# Altium footprint library PcbLib1.PcbLib: 4 footprints
Each footprint in its own frame and in the unit in brackets; x right, y up, seen from the top. Pads: shape width x height; smd on the part's side, far side on the other; paste and mask are expansions set on the pad; w line width, h text height; cw(c..) or ccw(c..) is an arc to the next point about the centre after c.
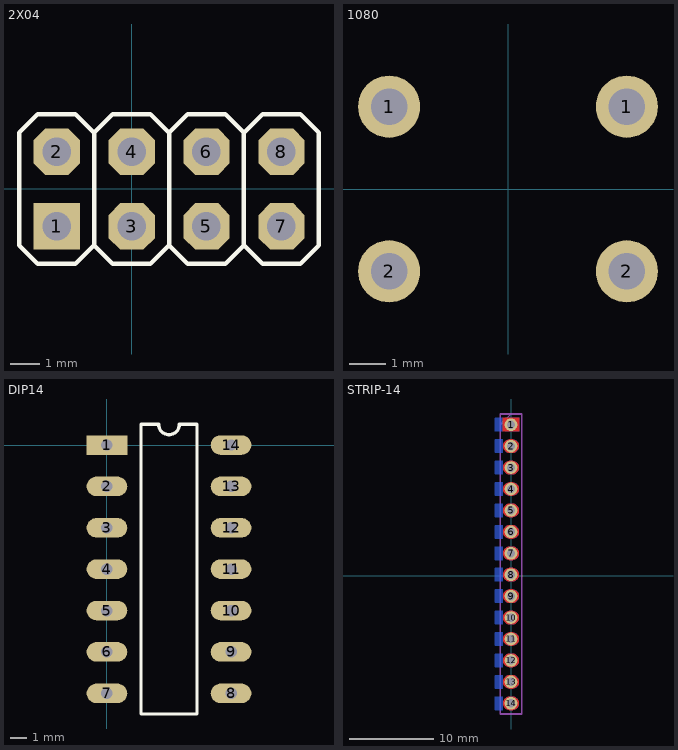
[diagram p0: the footprints below, top view; thin cyan lines are the x and y axes]

## 2X04 [mil]
height 338.58
pads (8):
  rect 62x62 hole 38: 1(-100,-50)
  oct 62x62 hole 38: 2(-100,50) 3(0,-50) 4(0,50) 5(100,-50) 6(100,50) 7(200,-50) 8(200,50)
Top Overlay:
  lines w6: -50,-75 -75,-100 -125,-100 -150,-75 -150,75 -125,100 -75,100 -50,75 ; -50,-75 -25,-100 25,-100 50,-75 ; -50,-75 -50,75 ; -50,75 -25,100 25,100 50,75 ; 50,-75 50,75 ; 50,-75 75,-100 125,-100 150,-75 ; 50,75 75,100 125,100 150,75 ; 150,-75 150,75 ; 150,-75 175,-100 225,-100 250,-75 250,75 225,100 175,100 150,75 ; 150,-75 150,75
Mechanical 16:
  rectangle: -110,-60 -90,-40
  rectangle: -110,40 -90,60
  rectangle: -10,40 10,60
  rectangle: -10,-60 10,-40
  rectangle: 90,40 110,60
  rectangle: 90,-60 110,-40
  rectangle: 190,-60 210,-40
  rectangle: 190,40 210,60

## 1080 [mm]
pads (4):
  round 1.7 hole 1: 1(-3.25,2.25) 1(3.25,2.25) 2(-3.25,-2.25) 2(3.25,-2.25)

## DIP14 [mm]
pads (14):
  rect 2.5x1.2 hole 0.7: 1(0,0)
  oval 2.5x1.2 hole 0.7: 2(0,-2.54) 3(0,-5.08) 4(0,-7.62) 5(0,-10.16) 6(0,-12.7) 7(0,-15.24) 8(7.62,-15.24) 9(7.62,-12.7) 10(7.62,-10.16) 11(7.62,-7.62) 12(7.62,-5.08) 13(7.62,-2.54) 14(7.62,0)
Top Overlay:
  lines w0.2: 2.085,-16.51 2.085,1.27 3.175,1.27 ccw(c3.81,1.27) 4.445,1.27 5.535,1.27 5.535,-16.51 2.085,-16.51

## STRIP-14 [mm]
pads (14):
  round 1.5 hole 1: 1(0,17.907) 2(0,15.367) 3(0,12.827) 4(0,10.287) 5(0,7.747) 6(0,5.207) 7(0,2.667) 8(0,0.127) 9(0,-2.413) 10(0,-4.953) 11(0,-7.493) 12(0,-10.033) 13(0,-12.573) 14(0,-15.113)
Top Layer:
  region: 0.953,18.707 0.953,17.107 -0.953,17.107 -0.953,18.707
  region: 0.14,16.167 0.219,16.167 0.373,16.136 0.519,16.076 0.65,15.988 0.761,15.877 0.849,15.746 0.909,15.6 0.94,15.446 0.94,15.367 0.94,15.288 0.909,15.134 0.849,14.988 0.761,14.857 0.65,14.746 0.519,14.658 0.373,14.598 0.219,14.567 0.14,14.567 -0.14,14.567 -0.219,14.567 -0.373,14.598 -0.519,14.658 -0.65,14.746 -0.761,14.857 -0.849,14.988 -0.909,15.134 -0.94,15.288 -0.94,15.367 -0.94,15.446 -0.909,15.6 -0.849,15.746 -0.761,15.877 -0.65,15.988 -0.519,16.076 -0.373,16.136 -0.219,16.167 -0.14,16.167
  region: 0.14,13.627 0.219,13.627 0.373,13.596 0.519,13.536 0.65,13.448 0.761,13.337 0.849,13.206 0.909,13.06 0.94,12.906 0.94,12.827 0.94,12.748 0.909,12.594 0.849,12.448 0.761,12.317 0.65,12.206 0.519,12.118 0.373,12.058 0.219,12.027 0.14,12.027 -0.14,12.027 -0.219,12.027 -0.373,12.058 -0.519,12.118 -0.65,12.206 -0.761,12.317 -0.849,12.448 -0.909,12.594 -0.94,12.748 -0.94,12.827 -0.94,12.906 -0.909,13.06 -0.849,13.206 -0.761,13.337 -0.65,13.448 -0.519,13.536 -0.373,13.596 -0.219,13.627 -0.14,13.627
  region: 0.14,11.087 0.219,11.087 0.373,11.056 0.519,10.996 0.65,10.908 0.761,10.797 0.849,10.666 0.909,10.52 0.94,10.366 0.94,10.287 0.94,10.208 0.909,10.054 0.849,9.908 0.761,9.777 0.65,9.666 0.519,9.578 0.373,9.518 0.219,9.487 0.14,9.487 -0.14,9.487 -0.219,9.487 -0.373,9.518 -0.519,9.578 -0.65,9.666 -0.761,9.777 -0.849,9.908 -0.909,10.054 -0.94,10.208 -0.94,10.287 -0.94,10.366 -0.909,10.52 -0.849,10.666 -0.761,10.797 -0.65,10.908 -0.519,10.996 -0.373,11.056 -0.219,11.087 -0.14,11.087
  region: 0.14,8.547 0.219,8.547 0.373,8.516 0.519,8.456 0.65,8.368 0.761,8.257 0.849,8.126 0.909,7.98 0.94,7.826 0.94,7.747 0.94,7.668 0.909,7.514 0.849,7.368 0.761,7.237 0.65,7.126 0.519,7.038 0.373,6.978 0.219,6.947 0.14,6.947 -0.14,6.947 -0.219,6.947 -0.373,6.978 -0.519,7.038 -0.65,7.126 -0.761,7.237 -0.849,7.368 -0.909,7.514 -0.94,7.668 -0.94,7.747 -0.94,7.826 -0.909,7.98 -0.849,8.126 -0.761,8.257 -0.65,8.368 -0.519,8.456 -0.373,8.516 -0.219,8.547 -0.14,8.547
  region: 0.14,6.007 0.219,6.007 0.373,5.976 0.519,5.916 0.65,5.828 0.761,5.717 0.849,5.586 0.909,5.44 0.94,5.286 0.94,5.207 0.94,5.128 0.909,4.974 0.849,4.828 0.761,4.697 0.65,4.586 0.519,4.498 0.373,4.438 0.219,4.407 0.14,4.407 -0.14,4.407 -0.219,4.407 -0.373,4.438 -0.519,4.498 -0.65,4.586 -0.761,4.697 -0.849,4.828 -0.909,4.974 -0.94,5.128 -0.94,5.207 -0.94,5.286 -0.909,5.44 -0.849,5.586 -0.761,5.717 -0.65,5.828 -0.519,5.916 -0.373,5.976 -0.219,6.007 -0.14,6.007
  region: 0.14,3.467 0.219,3.467 0.373,3.436 0.519,3.376 0.65,3.288 0.761,3.177 0.849,3.046 0.909,2.9 0.94,2.746 0.94,2.667 0.94,2.588 0.909,2.434 0.849,2.288 0.761,2.157 0.65,2.046 0.519,1.958 0.373,1.898 0.219,1.867 0.14,1.867 -0.14,1.867 -0.219,1.867 -0.373,1.898 -0.519,1.958 -0.65,2.046 -0.761,2.157 -0.849,2.288 -0.909,2.434 -0.94,2.588 -0.94,2.667 -0.94,2.746 -0.909,2.9 -0.849,3.046 -0.761,3.177 -0.65,3.288 -0.519,3.376 -0.373,3.436 -0.219,3.467 -0.14,3.467
  region: 0.14,0.927 0.219,0.927 0.373,0.896 0.519,0.836 0.65,0.748 0.761,0.637 0.849,0.506 0.909,0.36 0.94,0.206 0.94,0.127 0.94,0.048 0.909,-0.106 0.849,-0.252 0.761,-0.383 0.65,-0.494 0.519,-0.582 0.373,-0.642 0.219,-0.673 0.14,-0.673 -0.14,-0.673 -0.219,-0.673 -0.373,-0.642 -0.519,-0.582 -0.65,-0.494 -0.761,-0.383 -0.849,-0.252 -0.909,-0.106 -0.94,0.048 -0.94,0.127 -0.94,0.206 -0.909,0.36 -0.849,0.506 -0.761,0.637 -0.65,0.748 -0.519,0.836 -0.373,0.896 -0.219,0.927 -0.14,0.927
  region: 0.14,-1.613 0.219,-1.613 0.373,-1.644 0.519,-1.704 0.65,-1.792 0.761,-1.903 0.849,-2.034 0.909,-2.18 0.94,-2.334 0.94,-2.413 0.94,-2.492 0.909,-2.646 0.849,-2.792 0.761,-2.923 0.65,-3.034 0.519,-3.122 0.373,-3.182 0.219,-3.213 0.14,-3.213 -0.14,-3.213 -0.219,-3.213 -0.373,-3.182 -0.519,-3.122 -0.65,-3.034 -0.761,-2.923 -0.849,-2.792 -0.909,-2.646 -0.94,-2.492 -0.94,-2.413 -0.94,-2.334 -0.909,-2.18 -0.849,-2.034 -0.761,-1.903 -0.65,-1.792 -0.519,-1.704 -0.373,-1.644 -0.219,-1.613 -0.14,-1.613
  region: 0.14,-4.153 0.219,-4.153 0.373,-4.184 0.519,-4.244 0.65,-4.332 0.761,-4.443 0.849,-4.574 0.909,-4.72 0.94,-4.874 0.94,-4.953 0.94,-5.032 0.909,-5.186 0.849,-5.332 0.761,-5.463 0.65,-5.574 0.519,-5.662 0.373,-5.722 0.219,-5.753 0.14,-5.753 -0.14,-5.753 -0.219,-5.753 -0.373,-5.722 -0.519,-5.662 -0.65,-5.574 -0.761,-5.463 -0.849,-5.332 -0.909,-5.186 -0.94,-5.032 -0.94,-4.953 -0.94,-4.874 -0.909,-4.72 -0.849,-4.574 -0.761,-4.443 -0.65,-4.332 -0.519,-4.244 -0.373,-4.184 -0.219,-4.153 -0.14,-4.153
  region: 0.14,-6.693 0.219,-6.693 0.373,-6.724 0.519,-6.784 0.65,-6.872 0.761,-6.983 0.849,-7.114 0.909,-7.26 0.94,-7.414 0.94,-7.493 0.94,-7.572 0.909,-7.726 0.849,-7.872 0.761,-8.003 0.65,-8.114 0.519,-8.202 0.373,-8.262 0.219,-8.293 0.14,-8.293 -0.14,-8.293 -0.219,-8.293 -0.373,-8.262 -0.519,-8.202 -0.65,-8.114 -0.761,-8.003 -0.849,-7.872 -0.909,-7.726 -0.94,-7.572 -0.94,-7.493 -0.94,-7.414 -0.909,-7.26 -0.849,-7.114 -0.761,-6.983 -0.65,-6.872 -0.519,-6.784 -0.373,-6.724 -0.219,-6.693 -0.14,-6.693
  region: 0.14,-9.233 0.219,-9.233 0.373,-9.264 0.519,-9.324 0.65,-9.412 0.761,-9.523 0.849,-9.654 0.909,-9.8 0.94,-9.954 0.94,-10.033 0.94,-10.112 0.909,-10.266 0.849,-10.412 0.761,-10.543 0.65,-10.654 0.519,-10.742 0.373,-10.802 0.219,-10.833 0.14,-10.833 -0.14,-10.833 -0.219,-10.833 -0.373,-10.802 -0.519,-10.742 -0.65,-10.654 -0.761,-10.543 -0.849,-10.412 -0.909,-10.266 -0.94,-10.112 -0.94,-10.033 -0.94,-9.954 -0.909,-9.8 -0.849,-9.654 -0.761,-9.523 -0.65,-9.412 -0.519,-9.324 -0.373,-9.264 -0.219,-9.233 -0.14,-9.233
  region: 0.14,-11.773 0.219,-11.773 0.373,-11.804 0.519,-11.864 0.65,-11.952 0.761,-12.063 0.849,-12.194 0.909,-12.34 0.94,-12.494 0.94,-12.573 0.94,-12.652 0.909,-12.806 0.849,-12.952 0.761,-13.083 0.65,-13.194 0.519,-13.282 0.373,-13.342 0.219,-13.373 0.14,-13.373 -0.14,-13.373 -0.219,-13.373 -0.373,-13.342 -0.519,-13.282 -0.65,-13.194 -0.761,-13.083 -0.849,-12.952 -0.909,-12.806 -0.94,-12.652 -0.94,-12.573 -0.94,-12.494 -0.909,-12.34 -0.849,-12.194 -0.761,-12.063 -0.65,-11.952 -0.519,-11.864 -0.373,-11.804 -0.219,-11.773 -0.14,-11.773
  region: 0.14,-14.313 0.219,-14.313 0.373,-14.344 0.519,-14.404 0.65,-14.492 0.761,-14.603 0.849,-14.734 0.909,-14.88 0.94,-15.034 0.94,-15.113 0.94,-15.192 0.909,-15.346 0.849,-15.492 0.761,-15.623 0.65,-15.734 0.519,-15.822 0.373,-15.882 0.219,-15.913 0.14,-15.913 -0.14,-15.913 -0.219,-15.913 -0.373,-15.882 -0.519,-15.822 -0.65,-15.734 -0.761,-15.623 -0.849,-15.492 -0.909,-15.346 -0.94,-15.192 -0.94,-15.113 -0.94,-15.034 -0.909,-14.88 -0.849,-14.734 -0.761,-14.603 -0.65,-14.492 -0.519,-14.404 -0.373,-14.344 -0.219,-14.313 -0.14,-14.313
Bottom Layer:
  drawing of 92 lines, arcs and shapes, not listed
Top Solder:
  drawing of 14 lines, arcs and shapes, not listed
Bottom Solder:
  drawing of 27 lines, arcs and shapes, not listed
Mechanical 16:
  lines w0.203: -1.27,17.907 0,19.177 ; -1.27,-16.383 1.27,-16.383 1.27,19.177 -1.27,19.177 -1.27,-16.383
Mechanical 27:
  circle w0.05: c0,17.907 r0.25
  lines w0.05: -0.35,17.907 0.35,17.907 ; 0,17.557 0,18.257